# Altium footprint library Con 050 DSubminiature.PcbLib: 112 footprints (part 6 of 7)
Each footprint in its own frame and in the unit in brackets; x right, y up, seen from the top. Pads: shape width x height; smd on the part's side, far side on the other; paste and mask are expansions set on the pad; w line width, h text height; cw(c..) or ccw(c..) is an arc to the next point about the centre after c.
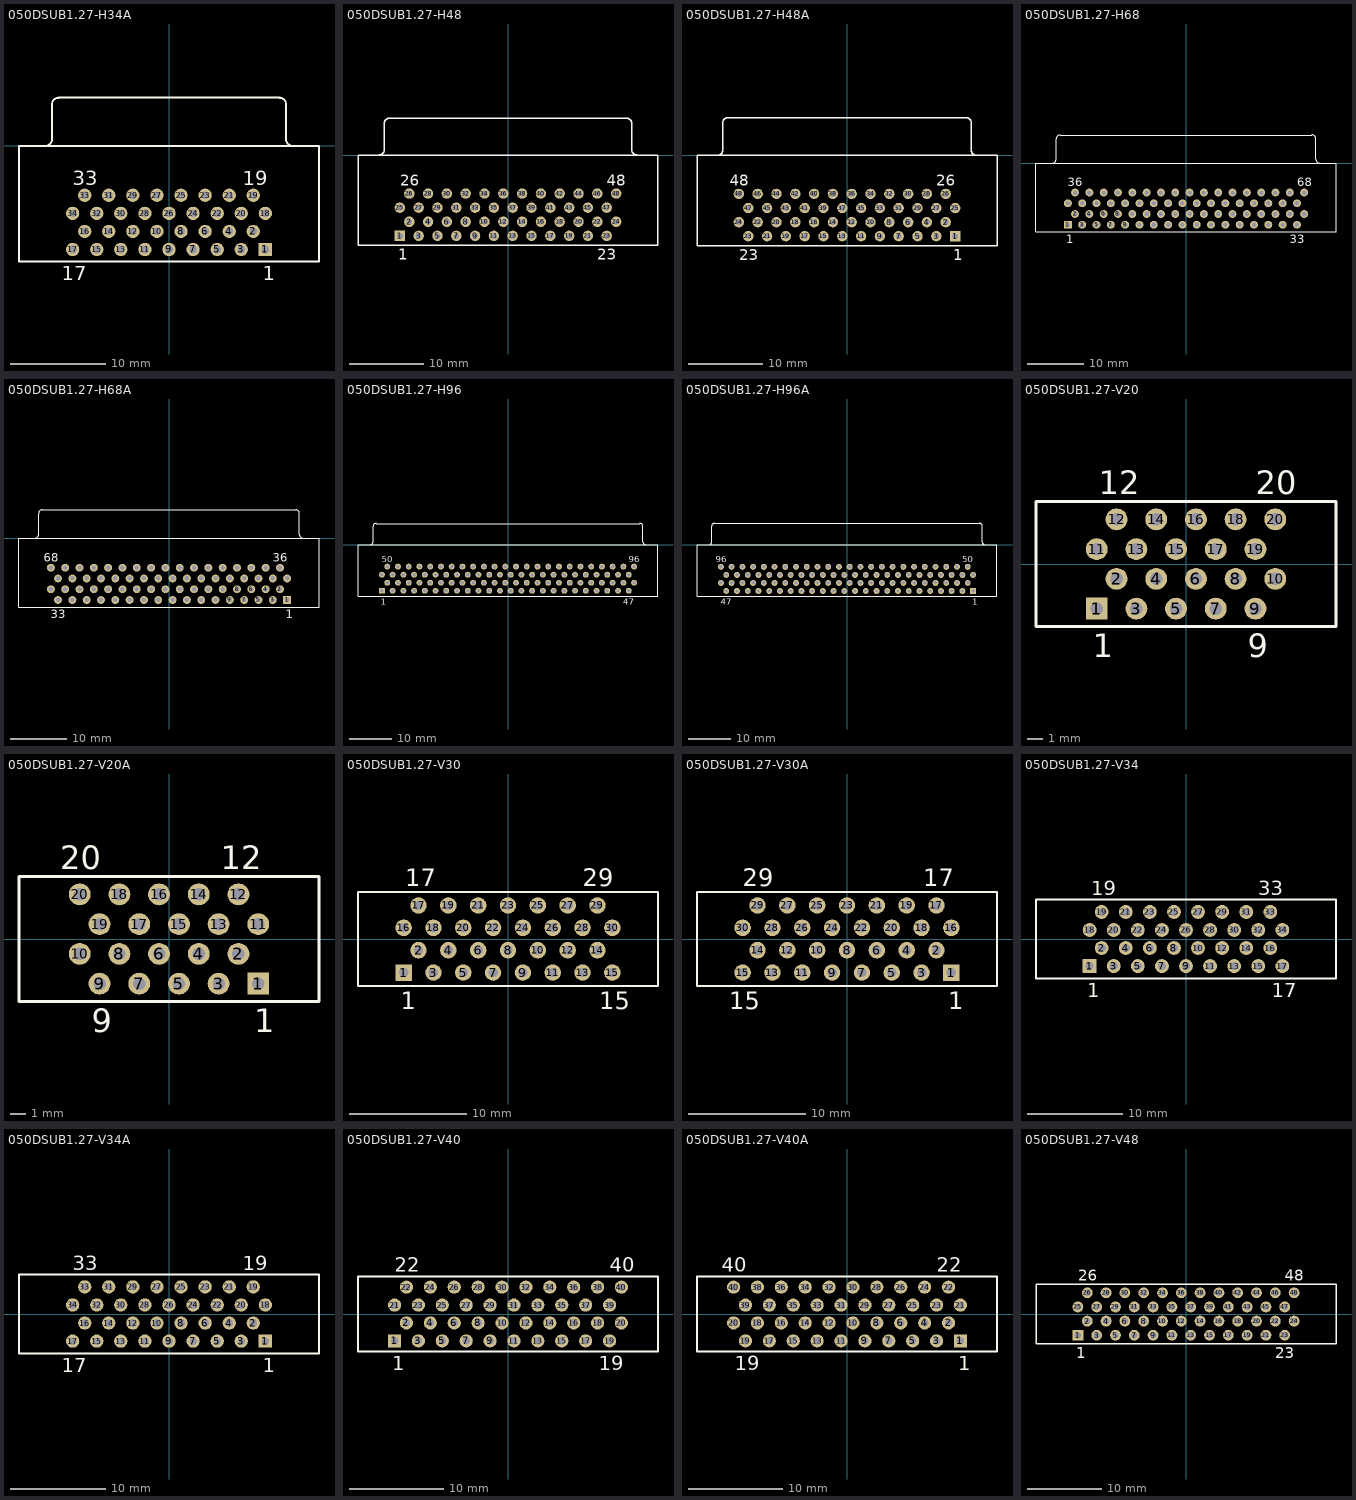
[diagram p5: the footprints below, top view; thin cyan lines are the x and y axes]

## 050DSUB1.27-H34A [mm] "Connector; D Subminiature 050 Series; 34 Position; Right Angle"
height 7.5
pads (34):
  rect 1.4x1.4 hole 0.8: 1(10.16,-10.915)
  round 1.4 hole 0.8: 2(8.89,-9.01) 3(7.62,-10.915) 4(6.35,-9.01) 5(5.08,-10.915) 6(3.81,-9.01) 7(2.54,-10.915) 8(1.27,-9.01) 9(0,-10.915) 10(-1.27,-9.01) 11(-2.54,-10.915) 12(-3.81,-9.01) 13(-5.08,-10.915) 14(-6.35,-9.01) 15(-7.62,-10.915) 16(-8.89,-9.01) 17(-10.16,-10.915) 18(10.16,-7.105) 19(8.89,-5.2) 20(7.62,-7.105) 21(6.35,-5.2) 22(5.08,-7.105) 23(3.81,-5.2) 24(2.54,-7.105) 25(1.27,-5.2) 26(0,-7.105) 27(-1.27,-5.2) 28(-2.54,-7.105) 29(-3.81,-5.2) 30(-5.08,-7.105) 31(-6.35,-5.2) 32(-7.62,-7.105) 33(-8.89,-5.2) 34(-10.16,-7.105)
Top Overlay:
  lines w0.2: -13.04,0.005 ccw(c-13.04,0.7) -12.345,0.7 -12.345,4.38 cw(c-11.65,4.38) -11.65,5.075 ; -11.65,5.1 11.718,5.1 ; 11.65,5.075 cw(c11.65,4.38) 12.345,4.38 12.345,0.7 ccw(c13.04,0.7) 13.04,0.005 ; -15.815,-12.2 15.815,-12.2 15.815,0 -15.815,0 -15.815,-12.2
  text "19" at 7.765,-4.125 h1.5
  text "33" at -10.14,-4.125 h1.5
  text "17" at -11.285,-14.175 h1.5
  text "1" at 9.91,-14.175 h1.5

## 050DSUB1.27-H48 [mm] "Connector; D Subminiature 050 Series; 48 Position; Right Angle"
height 7.5
pads (48):
  rect 1.4x1.4 hole 0.8: 1(-14.605,-10.915)
  round 1.4 hole 0.8: 2(-13.335,-9.01) 3(-12.065,-10.915) 4(-10.795,-9.01) 5(-9.525,-10.915) 6(-8.255,-9.01) 7(-6.985,-10.915) 8(-5.715,-9.01) 9(-4.445,-10.915) 10(-3.175,-9.01) 11(-1.905,-10.915) 12(-0.635,-9.01) 13(0.635,-10.915) 14(1.905,-9.01) 15(3.175,-10.915) 16(4.445,-9.01) 17(5.715,-10.915) 18(6.985,-9.01) 19(8.255,-10.915) 20(9.525,-9.01) 21(10.795,-10.915) 22(12.065,-9.01) 23(13.335,-10.915) 24(14.605,-9.01) 25(-14.605,-7.105) 26(-13.335,-5.2) 27(-12.065,-7.105) 28(-10.795,-5.2) 29(-9.525,-7.105) 30(-8.255,-5.2) 31(-6.985,-7.105) 32(-5.715,-5.2) 33(-4.445,-7.105) 34(-3.175,-5.2) 35(-1.905,-7.105) 36(-0.635,-5.2) 37(0.635,-7.105) 38(1.905,-5.2) 39(3.175,-7.105) 40(4.445,-5.2) 41(5.715,-7.105) 42(6.985,-5.2) 43(8.255,-7.105) 44(9.525,-5.2) 45(10.795,-7.105) 46(12.065,-5.2) 47(13.335,-7.105) 48(14.605,-5.2)
Top Overlay:
  lines w0.2: -17.385,0.015 ccw(c-17.385,0.71) -16.69,0.71 -16.69,4.3 cw(c-15.995,4.3) -15.995,4.995 ; -15.995,5 15.995,5 ; 15.995,4.995 cw(c15.995,4.3) 16.69,4.3 16.69,0.71 ccw(c17.385,0.71) 17.385,0.015 ; -20.26,-12.2 -20.26,0 20.26,0 20.26,-12.2 -20.26,-12.2
  text "1" at -14.855,-14.175 h1.5
  text "23" at 12.085,-14.175 h1.5
  text "26" at -14.585,-4.125 h1.5
  text "48" at 13.355,-4.125 h1.5

## 050DSUB1.27-H48A [mm] "Connector; D Subminiature 050 Series; 48 Position; Right Angle"
height 7.5
pads (48):
  rect 1.4x1.4 hole 0.8: 1(14.605,-10.915)
  round 1.4 hole 0.8: 2(13.335,-9.01) 3(12.065,-10.915) 4(10.795,-9.01) 5(9.525,-10.915) 6(8.255,-9.01) 7(6.985,-10.915) 8(5.715,-9.01) 9(4.445,-10.915) 10(3.175,-9.01) 11(1.905,-10.915) 12(0.635,-9.01) 13(-0.635,-10.915) 14(-1.905,-9.01) 15(-3.175,-10.915) 16(-4.445,-9.01) 17(-5.715,-10.915) 18(-6.985,-9.01) 19(-8.255,-10.915) 20(-9.525,-9.01) 21(-10.795,-10.915) 22(-12.065,-9.01) 23(-13.335,-10.915) 24(-14.605,-9.01) 25(14.605,-7.105) 26(13.335,-5.2) 27(12.065,-7.105) 28(10.795,-5.2) 29(9.525,-7.105) 30(8.255,-5.2) 31(6.985,-7.105) 32(5.715,-5.2) 33(4.445,-7.105) 34(3.175,-5.2) 35(1.905,-7.105) 36(0.635,-5.2) 37(-0.635,-7.105) 38(-1.905,-5.2) 39(-3.175,-7.105) 40(-4.445,-5.2) 41(-5.715,-7.105) 42(-6.985,-5.2) 43(-8.255,-7.105) 44(-9.525,-5.2) 45(-10.795,-7.105) 46(-12.065,-5.2) 47(-13.335,-7.105) 48(-14.605,-5.2)
Top Overlay:
  lines w0.2: -17.485,0.005 ccw(c-17.485,0.7) -16.79,0.7 -16.79,4.4 cw(c-16.095,4.4) -16.095,5.095 ; -16.095,5.1 16.095,5.1 ; 16.095,5.095 cw(c16.095,4.4) 16.79,4.4 16.79,0.7 ccw(c17.485,0.7) 17.485,0.005 ; -20.26,-12.2 -20.26,0 20.26,0 20.26,-12.2 -20.26,-12.2
  text "48" at -15.855,-4.125 h1.5
  text "23" at -14.585,-14.175 h1.5
  text "1" at 14.355,-14.175 h1.5
  text "26" at 12.085,-4.125 h1.5

## 050DSUB1.27-H68 [mm] "Connector; D Subminiature 050 Series; 68 Position; Right Angle"
height 7.5
pads (68):
  rect 1.4x1.4 hole 0.8: 1(-20.955,-10.915)
  round 1.4 hole 0.8: 2(-19.685,-9.01) 3(-18.415,-10.915) 4(-17.145,-9.01) 5(-15.875,-10.915) 6(-14.605,-9.01) 7(-13.335,-10.915) 8(-12.065,-9.01) 9(-10.795,-10.915) 10(-9.525,-9.01) 11(-8.255,-10.915) 12(-6.985,-9.01) 13(-5.715,-10.915) 14(-4.445,-9.01) 15(-3.175,-10.915) 16(-1.905,-9.01) 17(-0.635,-10.915) 18(0.635,-9.01) 19(1.905,-10.915) 20(3.175,-9.01) 21(4.445,-10.915) 22(5.715,-9.01) 23(6.985,-10.915) 24(8.255,-9.01) 25(9.525,-10.915) 26(10.795,-9.01) 27(12.065,-10.915) 28(13.335,-9.01) 29(14.605,-10.915) 30(15.875,-9.01) 31(17.145,-10.915) 32(18.415,-9.01) 33(19.685,-10.915) 34(20.955,-9.01) 35(-20.955,-7.105) 36(-19.685,-5.2) 37(-18.415,-7.105) 38(-17.145,-5.2) 39(-15.875,-7.105) 40(-14.605,-5.2) 41(-13.335,-7.105) 42(-12.065,-5.2) 43(-10.795,-7.105) 44(-9.525,-5.2) 45(-8.255,-7.105) 46(-6.985,-5.2) 47(-5.715,-7.105) 48(-4.445,-5.2) 49(-3.175,-7.105) 50(-1.905,-5.2) 51(-0.635,-7.105) 52(0.635,-5.2) 53(1.905,-7.105) 54(3.175,-5.2) 55(4.445,-7.105) 56(5.715,-5.2) 57(6.985,-7.105) 58(8.255,-5.2) 59(9.525,-7.105) 60(10.795,-5.2) 61(12.065,-7.105) 62(13.335,-5.2) 63(14.605,-7.105) 64(15.875,-5.2) 65(17.145,-7.105) 66(18.415,-5.2) 67(19.685,-7.105) 68(20.955,-5.2)
Top Overlay:
  lines w0.2: -23.735,0.005 ccw(c-23.735,0.7) -23.04,0.7 -23.04,4.305 cw(c-22.345,4.305) -22.345,5 22.345,5 ; 22.345,5.025 cw(c22.345,4.33) 23.04,4.33 23.04,0.7 ccw(c23.735,0.7) 23.735,0.005 ; -26.61,-12.2 26.61,-12.2 26.61,0 -26.61,0 -26.61,-12.2
  text "1" at -21.205,-14.175 h1.5
  text "33" at 18.435,-14.175 h1.5
  text "36" at -20.935,-4.125 h1.5
  text "68" at 19.705,-4.125 h1.5

## 050DSUB1.27-H68A [mm] "Connector; D Subminiature 050 Series; 68 Position; Right Angle"
height 7.5
pads (68):
  rect 1.4x1.4 hole 0.8: 1(20.955,-10.915)
  round 1.4 hole 0.8: 2(19.685,-9.01) 3(18.415,-10.915) 4(17.145,-9.01) 5(15.875,-10.915) 6(14.605,-9.01) 7(13.335,-10.915) 8(12.065,-9.01) 9(10.795,-10.915) 10(9.525,-9.01) 11(8.255,-10.915) 12(6.985,-9.01) 13(5.715,-10.915) 14(4.445,-9.01) 15(3.175,-10.915) 16(1.905,-9.01) 17(0.635,-10.915) 18(-0.635,-9.01) 19(-1.905,-10.915) 20(-3.175,-9.01) 21(-4.445,-10.915) 22(-5.715,-9.01) 23(-6.985,-10.915) 24(-8.255,-9.01) 25(-9.525,-10.915) 26(-10.795,-9.01) 27(-12.065,-10.915) 28(-13.335,-9.01) 29(-14.605,-10.915) 30(-15.875,-9.01) 31(-17.145,-10.915) 32(-18.415,-9.01) 33(-19.685,-10.915) 34(-20.955,-9.01) 35(20.955,-7.105) 36(19.685,-5.2) 37(18.415,-7.105) 38(17.145,-5.2) 39(15.875,-7.105) 40(14.605,-5.2) 41(13.335,-7.105) 42(12.065,-5.2) 43(10.795,-7.105) 44(9.525,-5.2) 45(8.255,-7.105) 46(6.985,-5.2) 47(5.715,-7.105) 48(4.445,-5.2) 49(3.175,-7.105) 50(1.905,-5.2) 51(0.635,-7.105) 52(-0.635,-5.2) 53(-1.905,-7.105) 54(-3.175,-5.2) 55(-4.445,-7.105) 56(-5.715,-5.2) 57(-6.985,-7.105) 58(-8.255,-5.2) 59(-9.525,-7.105) 60(-10.795,-5.2) 61(-12.065,-7.105) 62(-13.335,-5.2) 63(-14.605,-7.105) 64(-15.875,-5.2) 65(-17.145,-7.105) 66(-18.415,-5.2) 67(-19.685,-7.105) 68(-20.955,-5.2)
Top Overlay:
  lines w0.2: -23.835,0.005 ccw(c-23.835,0.7) -23.14,0.7 -23.14,4.393 cw(c-22.445,4.393) -22.445,5.088 ; -22.445,5.1 22.445,5.1 ; 22.445,5.088 cw(c22.445,4.393) 23.14,4.393 23.14,0.7 ccw(c23.835,0.7) 23.835,0.005 ; -26.61,-12.2 -26.61,0 26.61,0 26.61,-12.2 -26.61,-12.2
  text "1" at 20.705,-14.175 h1.5
  text "33" at -20.935,-14.175 h1.5
  text "68" at -22.205,-4.125 h1.5
  text "36" at 18.435,-4.125 h1.5

## 050DSUB1.27-H96 [mm] "Connector; D Subminiature 050 Series; 96 Position; Right Angle"
height 7.5
pads (96):
  rect 1.4x1.4 hole 0.8: 1(-29.845,-10.915)
  round 1.4 hole 0.8: 2(-28.575,-9.01) 3(-27.305,-10.915) 4(-26.035,-9.01) 5(-24.765,-10.915) 6(-23.495,-9.01) 7(-22.225,-10.915) 8(-20.955,-9.01) 9(-19.685,-10.915) 10(-18.415,-9.01) 11(-17.145,-10.915) 12(-15.875,-9.01) 13(-14.605,-10.915) 14(-13.335,-9.01) 15(-12.065,-10.915) 16(-10.795,-9.01) 17(-9.525,-10.915) 18(-8.255,-9.01) 19(-6.985,-10.915) 20(-5.715,-9.01) 21(-4.445,-10.915) 22(-3.175,-9.01) 23(-1.905,-10.915) 24(-0.635,-9.01) 25(0.635,-10.915) 26(1.905,-9.01) 27(3.175,-10.915) 28(4.445,-9.01) 29(5.715,-10.915) 30(6.985,-9.01) 31(8.255,-10.915) 32(9.525,-9.01) 33(10.795,-10.915) 34(12.065,-9.01) 35(13.335,-10.915) 36(14.605,-9.01) 37(15.875,-10.915) 38(17.145,-9.01) 39(18.415,-10.915) 40(19.685,-9.01) 41(20.955,-10.915) 42(22.225,-9.01) 43(23.495,-10.915) 44(24.765,-9.01) 45(26.035,-10.915) 46(27.305,-9.01) 47(28.575,-10.915) 48(29.845,-9.01) 49(-29.845,-7.105) 50(-28.575,-5.2) 51(-27.305,-7.105) 52(-26.035,-5.2) 53(-24.765,-7.105) 54(-23.495,-5.2) 55(-22.225,-7.105) 56(-20.955,-5.2) 57(-19.685,-7.105) 58(-18.415,-5.2) 59(-17.145,-7.105) 60(-15.875,-5.2) 61(-14.605,-7.105) 62(-13.335,-5.2) 63(-12.065,-7.105) 64(-10.795,-5.2) 65(-9.525,-7.105) 66(-8.255,-5.2) 67(-6.985,-7.105) 68(-5.715,-5.2) 69(-4.445,-7.105) 70(-3.175,-5.2) 71(-1.905,-7.105) 72(-0.635,-5.2) 73(0.635,-7.105) 74(1.905,-5.2) 75(3.175,-7.105) 76(4.445,-5.2) 77(5.715,-7.105) 78(6.985,-5.2) 79(8.255,-7.105) 80(9.525,-5.2) 81(10.795,-7.105) 82(12.065,-5.2) 83(13.335,-7.105) 84(14.605,-5.2) 85(15.875,-7.105) 86(17.145,-5.2) 87(18.415,-7.105) 88(19.685,-5.2) 89(20.955,-7.105) 90(22.225,-5.2) 91(23.495,-7.105) 92(24.765,-5.2) 93(26.035,-7.105) 94(27.305,-5.2) 95(28.575,-7.105) 96(29.845,-5.2)
Top Overlay:
  lines w0.2: -32.625,0.005 ccw(c-32.625,0.7) -31.93,0.7 -31.93,4.33 cw(c-31.235,4.33) -31.235,5.025 ; -31.235,5 31.235,5 ; 31.235,5.025 cw(c31.235,4.33) 31.93,4.33 31.93,0.7 ccw(c32.625,0.7) 32.625,0.005 ; -35.5,-12.2 -35.5,0 35.5,0 35.5,-12.2 -35.5,-12.2
  text "96" at 28.595,-4.125 h1.5
  text "50" at -29.825,-4.125 h1.5
  text "1" at -30.095,-14.175 h1.5
  text "47" at 27.325,-14.175 h1.5

## 050DSUB1.27-H96A [mm] "Connector; D Subminiature 050 Series; 96 Position; Right Angle"
height 7.5
pads (96):
  rect 1.4x1.4 hole 0.8: 1(29.845,-10.915)
  round 1.4 hole 0.8: 2(28.575,-9.01) 3(27.305,-10.915) 4(26.035,-9.01) 5(24.765,-10.915) 6(23.495,-9.01) 7(22.225,-10.915) 8(20.955,-9.01) 9(19.685,-10.915) 10(18.415,-9.01) 11(17.145,-10.915) 12(15.875,-9.01) 13(14.605,-10.915) 14(13.335,-9.01) 15(12.065,-10.915) 16(10.795,-9.01) 17(9.525,-10.915) 18(8.255,-9.01) 19(6.985,-10.915) 20(5.715,-9.01) 21(4.445,-10.915) 22(3.175,-9.01) 23(1.905,-10.915) 24(0.635,-9.01) 25(-0.635,-10.915) 26(-1.905,-9.01) 27(-3.175,-10.915) 28(-4.445,-9.01) 29(-5.715,-10.915) 30(-6.985,-9.01) 31(-8.255,-10.915) 32(-9.525,-9.01) 33(-10.795,-10.915) 34(-12.065,-9.01) 35(-13.335,-10.915) 36(-14.605,-9.01) 37(-15.875,-10.915) 38(-17.145,-9.01) 39(-18.415,-10.915) 40(-19.685,-9.01) 41(-20.955,-10.915) 42(-22.225,-9.01) 43(-23.495,-10.915) 44(-24.765,-9.01) 45(-26.035,-10.915) 46(-27.305,-9.01) 47(-28.575,-10.915) 48(-29.845,-9.01) 49(29.845,-7.105) 50(28.575,-5.2) 51(27.305,-7.105) 52(26.035,-5.2) 53(24.765,-7.105) 54(23.495,-5.2) 55(22.225,-7.105) 56(20.955,-5.2) 57(19.685,-7.105) 58(18.415,-5.2) 59(17.145,-7.105) 60(15.875,-5.2) 61(14.605,-7.105) 62(13.335,-5.2) 63(12.065,-7.105) 64(10.795,-5.2) 65(9.525,-7.105) 66(8.255,-5.2) 67(6.985,-7.105) 68(5.715,-5.2) 69(4.445,-7.105) 70(3.175,-5.2) 71(1.905,-7.105) 72(0.635,-5.2) 73(-0.635,-7.105) 74(-1.905,-5.2) 75(-3.175,-7.105) 76(-4.445,-5.2) 77(-5.715,-7.105) 78(-6.985,-5.2) 79(-8.255,-7.105) 80(-9.525,-5.2) 81(-10.795,-7.105) 82(-12.065,-5.2) 83(-13.335,-7.105) 84(-14.605,-5.2) 85(-15.875,-7.105) 86(-17.145,-5.2) 87(-18.415,-7.105) 88(-19.685,-5.2) 89(-20.955,-7.105) 90(-22.225,-5.2) 91(-23.495,-7.105) 92(-24.765,-5.2) 93(-26.035,-7.105) 94(-27.305,-5.2) 95(-28.575,-7.105) 96(-29.845,-5.2)
Top Overlay:
  lines w0.2: -32.725,0.005 ccw(c-32.725,0.7) -32.03,0.7 -32.03,4.413 cw(c-31.335,4.413) -31.335,5.108 ; -31.335,5.1 31.395,5.1 ; 31.335,5.118 cw(c31.335,4.423) 32.03,4.423 32.03,0.7 ccw(c32.725,0.7) 32.725,0.005 ; -35.5,-12.2 35.5,-12.2 35.5,0 -35.5,0 -35.5,-12.2
  text "50" at 27.325,-4.125 h1.5
  text "96" at -31.095,-4.125 h1.5
  text "47" at -29.825,-14.175 h1.5
  text "1" at 29.595,-14.175 h1.5

## 050DSUB1.27-V20 [mm] "Connector; D Subminiature 050 Series; 20 Position; Vertical"
height 8
pads (20):
  rect 1.4x1.4 hole 0.8: 1(-5.715,-2.857)
  round 1.4 hole 0.8: 2(-4.445,-0.953) 3(-3.175,-2.857) 4(-1.905,-0.953) 5(-0.635,-2.857) 6(0.635,-0.953) 7(1.905,-2.857) 8(3.175,-0.953) 9(4.445,-2.857) 10(5.715,-0.953) 11(-5.715,0.953) 12(-4.445,2.857) 13(-3.175,0.953) 14(-1.905,2.857) 15(-0.635,0.953) 16(0.635,2.857) 17(1.905,0.953) 18(3.175,2.857) 19(4.445,0.953) 20(5.715,2.857)
Top Overlay:
  lines w0.2: -9.6,-4 -9.6,4 9.6,4 9.6,-4 -9.6,-4
  text "1" at -5.965,-5.975 h1.5
  text "9" at 3.945,-5.975 h1.5
  text "12" at -5.57,4.475 h1.5
  text "20" at 4.465,4.475 h1.5

## 050DSUB1.27-V20A [mm] "Connector; D Subminiature 050 Series; 20 Position; Vertical"
height 9.6
pads (20):
  rect 1.4x1.4 hole 0.8: 1(5.715,-2.857)
  round 1.4 hole 0.8: 2(4.445,-0.953) 3(3.175,-2.857) 4(1.905,-0.953) 5(0.635,-2.857) 6(-0.635,-0.953) 7(-1.905,-2.857) 8(-3.175,-0.953) 9(-4.445,-2.857) 10(-5.715,-0.953) 11(5.715,0.953) 12(4.445,2.857) 13(3.175,0.953) 14(1.905,2.857) 15(0.635,0.953) 16(-0.635,2.857) 17(-1.905,0.953) 18(-3.175,2.857) 19(-4.445,0.953) 20(-5.715,2.857)
Top Overlay:
  lines w0.2: -9.6,-4 -9.6,4 9.6,4 9.6,-4 -9.6,-4
  text "9" at -4.945,-5.975 h1.5
  text "1" at 5.465,-5.975 h1.5
  text "12" at 3.32,4.475 h1.5
  text "20" at -6.965,4.475 h1.5

## 050DSUB1.27-V30 [mm] "Connector; D Subminiature 050 Series; 30 Position; Vertical"
height 8
pads (30):
  rect 1.4x1.4 hole 0.8: 1(-8.89,-2.857)
  round 1.4 hole 0.8: 2(-7.62,-0.953) 3(-6.35,-2.857) 4(-5.08,-0.953) 5(-3.81,-2.857) 6(-2.54,-0.953) 7(-1.27,-2.857) 8(0,-0.953) 9(1.27,-2.857) 10(2.54,-0.953) 11(3.81,-2.857) 12(5.08,-0.953) 13(6.35,-2.857) 14(7.62,-0.953) 15(8.89,-2.857) 16(-8.89,0.953) 17(-7.62,2.857) 18(-6.35,0.953) 19(-5.08,2.857) 20(-3.81,0.953) 21(-2.54,2.857) 22(-1.27,0.953) 23(0,2.857) 24(1.27,0.953) 25(2.54,2.857) 26(3.81,0.953) 27(5.08,2.857) 28(6.35,0.953) 29(7.62,2.857) 30(8.89,0.953)
Top Overlay:
  lines w0.2: -12.775,-4 12.775,-4 12.775,4 -12.775,4 -12.775,-4
  text "1" at -9.14,-5.975 h1.5
  text "29" at 6.37,4.475 h1.5
  text "17" at -8.745,4.475 h1.5
  text "15" at 7.765,-5.975 h1.5

## 050DSUB1.27-V30A [mm] "Connector; D Subminiature 050 Series; 30 Position; Vertical"
height 9.6
pads (30):
  rect 1.4x1.4 hole 0.8: 1(8.89,-2.857)
  round 1.4 hole 0.8: 2(7.62,-0.953) 3(6.35,-2.857) 4(5.08,-0.953) 5(3.81,-2.857) 6(2.54,-0.953) 7(1.27,-2.857) 8(0,-0.953) 9(-1.27,-2.857) 10(-2.54,-0.953) 11(-3.81,-2.857) 12(-5.08,-0.953) 13(-6.35,-2.857) 14(-7.62,-0.953) 15(-8.89,-2.857) 16(8.89,0.953) 17(7.62,2.857) 18(6.35,0.953) 19(5.08,2.857) 20(3.81,0.953) 21(2.54,2.857) 22(1.27,0.953) 23(0,2.857) 24(-1.27,0.953) 25(-2.54,2.857) 26(-3.81,0.953) 27(-5.08,2.857) 28(-6.35,0.953) 29(-7.62,2.857) 30(-8.89,0.953)
Top Overlay:
  lines w0.2: -12.775,-4 -12.775,4 12.775,4 12.775,-4 -12.775,-4
  text "1" at 8.64,-5.975 h1.5
  text "15" at -10.015,-5.975 h1.5
  text "17" at 6.495,4.475 h1.5
  text "29" at -8.87,4.475 h1.5

## 050DSUB1.27-V34 [mm] "Connector; D Subminiature 050 Series; 34 Position; Vertical"
height 7.9
pads (34):
  rect 1.46x1.46 hole 0.86: 1(-10.16,-2.857)
  round 1.46 hole 0.86: 2(-8.89,-0.953) 3(-7.62,-2.857) 4(-6.35,-0.953) 5(-5.08,-2.857) 6(-3.81,-0.953) 7(-2.54,-2.857) 8(-1.27,-0.953) 9(0,-2.857) 10(1.27,-0.953) 11(2.54,-2.857) 12(3.81,-0.953) 13(5.08,-2.857) 14(6.35,-0.953) 15(7.62,-2.857) 16(8.89,-0.953) 17(10.16,-2.857) 18(-10.16,0.953) 19(-8.89,2.857) 20(-7.62,0.953) 21(-6.35,2.857) 22(-5.08,0.953) 23(-3.81,2.857) 24(-2.54,0.953) 25(-1.27,2.857) 26(0,0.953) 27(1.27,2.857) 28(2.54,0.953) 29(3.81,2.857) 30(5.08,0.953) 31(6.35,2.857) 32(7.62,0.953) 33(8.89,2.857) 34(10.16,0.953)
Top Overlay:
  lines w0.2: -15.815,-4.157 15.815,-4.157 15.815,4.157 -15.815,4.157 -15.815,-4.157
  text "1" at -10.41,-6.132 h1.5
  text "17" at 9.035,-6.132 h1.5
  text "19" at -10.015,4.633 h1.5
  text "33" at 7.64,4.633 h1.5

## 050DSUB1.27-V34A [mm] "Connector; D Subminiature 050 Series; 34 Position; Vertical"
height 9.5
pads (34):
  rect 1.4x1.4 hole 0.8: 1(10.16,-2.857)
  round 1.4 hole 0.8: 2(8.89,-0.953) 3(7.62,-2.857) 4(6.35,-0.953) 5(5.08,-2.857) 6(3.81,-0.953) 7(2.54,-2.857) 8(1.27,-0.953) 9(0,-2.857) 10(-1.27,-0.953) 11(-2.54,-2.857) 12(-3.81,-0.953) 13(-5.08,-2.857) 14(-6.35,-0.953) 15(-7.62,-2.857) 16(-8.89,-0.953) 17(-10.16,-2.857) 18(10.16,0.953) 19(8.89,2.857) 20(7.62,0.953) 21(6.35,2.857) 22(5.08,0.953) 23(3.81,2.857) 24(2.54,0.953) 25(1.27,2.857) 26(0,0.953) 27(-1.27,2.857) 28(-2.54,0.953) 29(-3.81,2.857) 30(-5.08,0.953) 31(-6.35,2.857) 32(-7.62,0.953) 33(-8.89,2.857) 34(-10.16,0.953)
Top Overlay:
  lines w0.2: -15.815,-4.157 15.815,-4.157 15.815,4.157 -15.815,4.157 -15.815,-4.157
  text "1" at 9.91,-6.132 h1.5
  text "17" at -11.285,-6.132 h1.5
  text "33" at -10.14,4.633 h1.5
  text "19" at 7.765,4.633 h1.5

## 050DSUB1.27-V40 [mm] "Connector; D Subminiature 050 Series; 40 Position; Vertical"
height 8
pads (40):
  rect 1.4x1.4 hole 0.8: 1(-12.065,-2.857)
  round 1.4 hole 0.8: 2(-10.795,-0.953) 3(-9.525,-2.857) 4(-8.255,-0.953) 5(-6.985,-2.857) 6(-5.715,-0.953) 7(-4.445,-2.857) 8(-3.175,-0.953) 9(-1.905,-2.857) 10(-0.635,-0.953) 11(0.635,-2.857) 12(1.905,-0.953) 13(3.175,-2.857) 14(4.445,-0.953) 15(5.715,-2.857) 16(6.985,-0.953) 17(8.255,-2.857) 18(9.525,-0.953) 19(10.795,-2.857) 20(12.065,-0.953) 21(-12.065,0.953) 22(-10.795,2.857) 23(-9.525,0.953) 24(-8.255,2.857) 25(-6.985,0.953) 26(-5.715,2.857) 27(-4.445,0.953) 28(-3.175,2.857) 29(-1.905,0.953) 30(-0.635,2.857) 31(0.635,0.953) 32(1.905,2.857) 33(3.175,0.953) 34(4.445,2.857) 35(5.715,0.953) 36(6.985,2.857) 37(8.255,0.953) 38(9.525,2.857) 39(10.795,0.953) 40(12.065,2.857)
Top Overlay:
  lines w0.2: -15.95,-4 -15.95,4 15.95,4 15.95,-4 -15.95,-4
  text "40" at 10.815,4.475 h1.5
  text "22" at -12.045,4.475 h1.5
  text "19" at 9.67,-5.975 h1.5
  text "1" at -12.315,-5.975 h1.5

## 050DSUB1.27-V40A [mm] "Connector; D Subminiature 050 Series; 40 Position; Vertical"
height 9.6
pads (40):
  rect 1.4x1.4 hole 0.8: 1(12.065,-2.857)
  round 1.4 hole 0.8: 2(10.795,-0.953) 3(9.525,-2.857) 4(8.255,-0.953) 5(6.985,-2.857) 6(5.715,-0.953) 7(4.445,-2.857) 8(3.175,-0.953) 9(1.905,-2.857) 10(0.635,-0.953) 11(-0.635,-2.857) 12(-1.905,-0.953) 13(-3.175,-2.857) 14(-4.445,-0.953) 15(-5.715,-2.857) 16(-6.985,-0.953) 17(-8.255,-2.857) 18(-9.525,-0.953) 19(-10.795,-2.857) 20(-12.065,-0.953) 21(12.065,0.953) 22(10.795,2.857) 23(9.525,0.953) 24(8.255,2.857) 25(6.985,0.953) 26(5.715,2.857) 27(4.445,0.953) 28(3.175,2.857) 29(1.905,0.953) 30(0.635,2.857) 31(-0.635,0.953) 32(-1.905,2.857) 33(-3.175,0.953) 34(-4.445,2.857) 35(-5.715,0.953) 36(-6.985,2.857) 37(-8.255,0.953) 38(-9.525,2.857) 39(-10.795,0.953) 40(-12.065,2.857)
Top Overlay:
  lines w0.2: -15.95,-4 15.95,-4 15.95,4 -15.95,4 -15.95,-4
  text "22" at 9.545,4.475 h1.5
  text "40" at -13.315,4.475 h1.5
  text "19" at -11.92,-5.975 h1.5
  text "1" at 11.815,-5.975 h1.5

## 050DSUB1.27-V48 [mm] "Connector; D Subminiature 050 Series; 48 Position; Vertical"
height 7.9
pads (48):
  rect 1.46x1.46 hole 0.86: 1(-14.605,-2.857)
  round 1.46 hole 0.86: 2(-13.335,-0.953) 3(-12.065,-2.857) 4(-10.795,-0.953) 5(-9.525,-2.857) 6(-8.255,-0.953) 7(-6.985,-2.857) 8(-5.715,-0.953) 9(-4.445,-2.857) 10(-3.175,-0.953) 11(-1.905,-2.857) 12(-0.635,-0.953) 13(0.635,-2.857) 14(1.905,-0.953) 15(3.175,-2.857) 16(4.445,-0.953) 17(5.715,-2.857) 18(6.985,-0.953) 19(8.255,-2.857) 20(9.525,-0.953) 21(10.795,-2.857) 22(12.065,-0.953) 23(13.335,-2.857) 24(14.605,-0.953) 25(-14.605,0.953) 26(-13.335,2.857) 27(-12.065,0.953) 28(-10.795,2.857) 29(-9.525,0.953) 30(-8.255,2.857) 31(-6.985,0.953) 32(-5.715,2.857) 33(-4.445,0.953) 34(-3.175,2.857) 35(-1.905,0.953) 36(-0.635,2.857) 37(0.635,0.953) 38(1.905,2.857) 39(3.175,0.953) 40(4.445,2.857) 41(5.715,0.953) 42(6.985,2.857) 43(8.255,0.953) 44(9.525,2.857) 45(10.795,0.953) 46(12.065,2.857) 47(13.335,0.953) 48(14.605,2.857)
Top Overlay:
  lines w0.2: -20.26,-4 20.26,-4 20.26,4 -20.26,4 -20.26,-4
  text "48" at 13.355,4.475 h1.5
  text "26" at -14.585,4.475 h1.5
  text "23" at 12.085,-5.975 h1.5
  text "1" at -14.855,-5.975 h1.5